# Altium integrated library PIN_PROGRAM.IntLib: 1 symbol
Pins are listed as number, name and electrical type; pins without a type are passive.

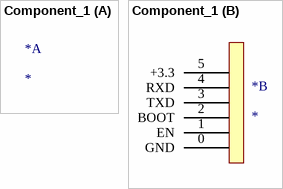
[diagram p0: symbol Component_1]

## Component_1
designator *
part B pins: 0 GND, 1 EN, 2 BOOT, 3 TXD, 4 RXD, 5 +3.3